# Altium footprint library PCB各式LOGO的冲突文件 2020-09-25 18-37-57-263.PcbLib: 6 footprints
Each footprint in its own frame and in the unit in brackets; x right, y up, seen from the top. Pads: shape width x height; smd on the part's side, far side on the other; paste and mask are expansions set on the pad; w line width, h text height; cw(c..) or ccw(c..) is an arc to the next point about the centre after c.
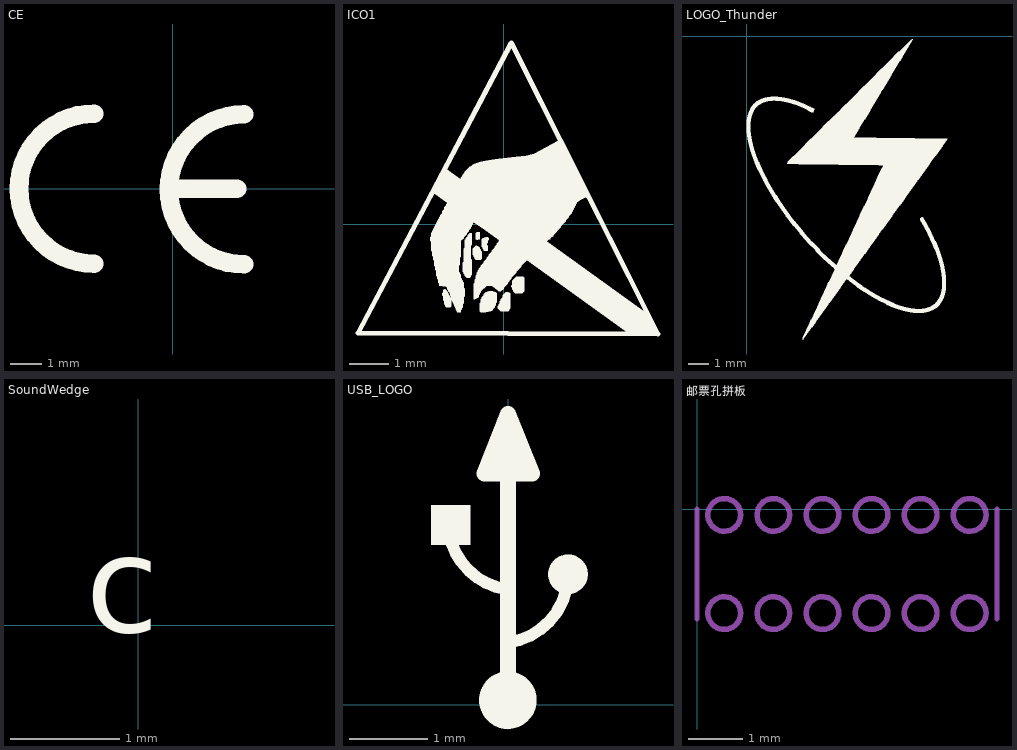
[diagram p0: the footprints below, top view; thin cyan lines are the x and y axes]

## CE [mm]
Top Overlay:
  lines w0.6: -2.53,-2.413 cw(c-2.53,0) -2.53,2.413 ; 0,0 2.07,0 ; 2.296,-2.438 cw(c2.296,-0.025) 2.296,2.388

## ICO1 [mm]
Top Overlay:
  drawing of 14 lines, arcs and shapes, not listed

## LOGO_Thunder [mm]
Top Overlay:
  drawing of 2284 lines, arcs and shapes, not listed

## SoundWedge [mm]
Top Overlay:
  text "c" at -0.483,-0.356 h1.52

## USB_LOGO [mm]
height 10.16
Top Overlay:
  circle w0.381: c-0.003,0.056 r0.178
  circle w0.254: c0.767,1.665 r0.127
  rectangle: -0.988,2.038 -0.478,2.548
  lines w0.152: -0.728,2.079 ccw(c0.119,2.349) -0.001,1.468 ; -0.001,0.791 ccw(c-0.12,1.672) 0.767,1.62
  lines w0.203: -0.001,0.191 -0.001,3.714 ; -0.001,2.95 -0.001,3.714 ; -0.001,3.714 -0.3,2.952 0.309,2.952 -0.001,3.714
  lines w0.381: -0.001,3.054 -0.001,3.155

## 邮票孔拼板 [mm] "要求板间距2mm"
Mechanical 1:
  circle w0.1: c0.5,-1.9 r0.3
  circle w0.1: c1.4,-1.9 r0.3
  circle w0.1: c3.2,-1.9 r0.3
  circle w0.1: c2.3,-1.9 r0.3
  circle w0.1: c5,-1.9 r0.3
  circle w0.1: c4.1,-1.9 r0.3
  circle w0.1: c4.1,-0.1 r0.3
  circle w0.1: c5,-0.1 r0.3
  circle w0.1: c2.3,-0.1 r0.3
  circle w0.1: c3.2,-0.1 r0.3
  circle w0.1: c1.4,-0.1 r0.3
  circle w0.1: c0.5,-0.1 r0.3
  lines w0.1: 0,-2 0,0 ; 5.5,-2 5.5,0